# EAGLE library part TFT_LCD_2.2 (library TFT_LCD_2.2)
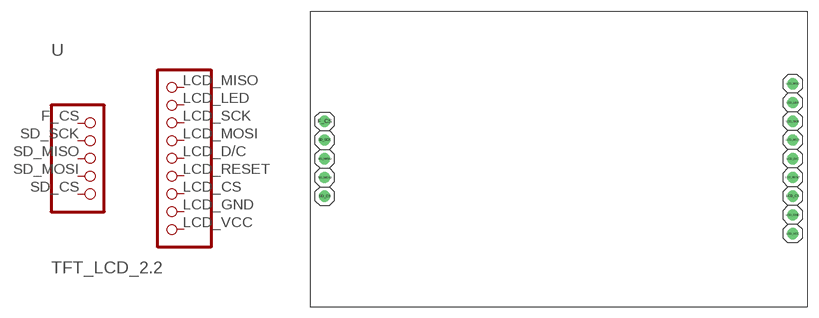
[diagram p0: symbol with the pads of TFT_LCD_2.2; footprint TFT_LCD_2.2]

Designator prefix -

## TFT_LCD_2.2  [TFT_LCD_2.2]
F_CS  F_CS  pas
LCD_CS  LCD_CS  pas
LCD_D/C  LCD_D/C  pas
LCD_GND  LCD_GND  pas
LCD_LED  LCD_LED  pas
LCD_MISO  LCD_MISO  pas
LCD_MOSI  LCD_MOSI  pas
LCD_RESET  LCD_RESET  pas
LCD_SCK  LCD_SCK  pas
LCD_VCC  LCD_VCC  pas
SD_CS  SD_CS  pas
SD_MISO  SD_MISO  pas
SD_MOSI  SD_MOSI  pas
SD_SCK  SD_SCK  pas

## Footprint TFT_LCD_2.2 (pad centres in mm)
drill 1.016: F_CS -31.86,5.08; LCD_CS 31.6,-5.08; LCD_D/C 31.6,0; LCD_GND 31.6,-7.62; LCD_LED 31.6,7.62; LCD_MISO 31.6,10.16; LCD_MOSI 31.6,2.54; LCD_RESET 31.6,-2.54; LCD_SCK 31.6,5.08; LCD_VCC 31.6,-10.16; SD_CS -31.86,-5.08; SD_MISO -31.86,0; SD_MOSI -31.86,-2.54; SD_SCK -31.86,2.54